# EAGLE library part OPA4227UA (library OPAX22X)
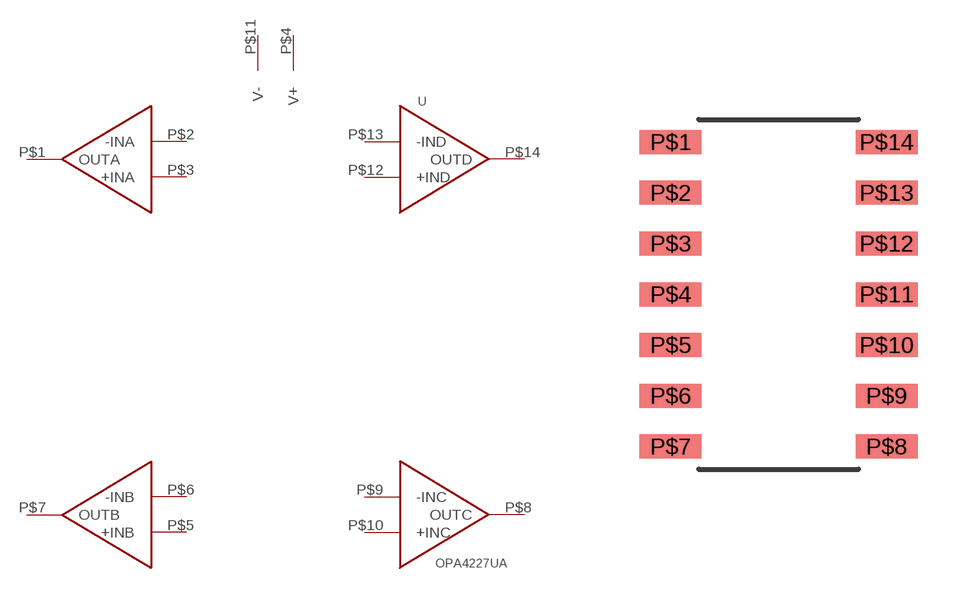
[diagram p0: symbol with the pads of SOIC-14; footprint SOIC-14]

Designator prefix -

## OPA4227UA  [SOIC-14]
P$1  OUTA  out
P$2  -INA  in
P$3  +INA  in
P$4  V+  pwr
P$5  +INB  in
P$6  -INB  in
P$7  OUTB  out
P$8  OUTC  out
P$9  -INC  in
P$10  +INC  in
P$11  V-  pwr
P$12  +IND  in
P$13  -IND  in
P$14  OUTD  out

## Footprint SOIC-14 (pad centres in mm)
smd 1.55 x 0.6: P$1 -2.7,3.81; P$2 -2.7,2.54; P$3 -2.7,1.27; P$4 -2.7,0; P$5 -2.7,-1.27; P$6 -2.7,-2.54; P$7 -2.7,-3.81; P$8 2.7,-3.81; P$9 2.7,-2.54; P$10 2.7,-1.27; P$11 2.7,0; P$12 2.7,1.27; P$13 2.7,2.54; P$14 2.7,3.81